# Altium integrated library Atmel Microcontroller AVR UC3.IntLib: 227 symbols (part 10 of 32)
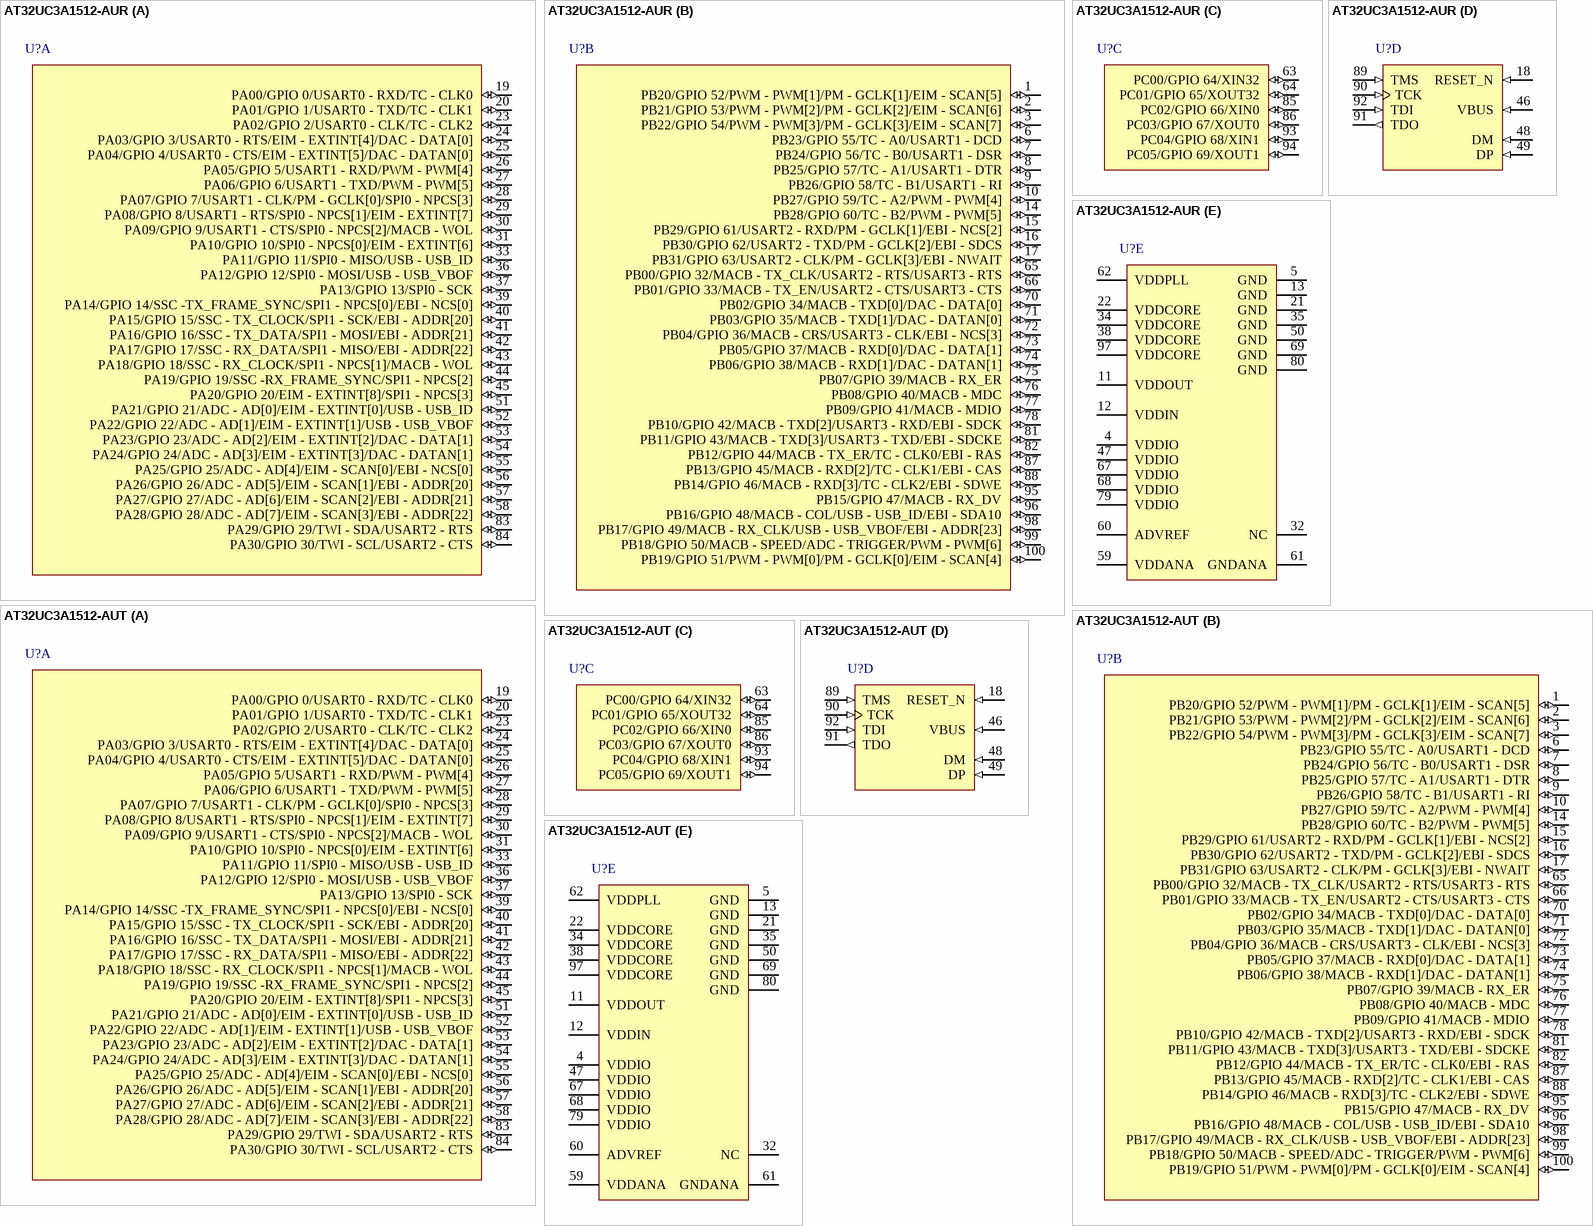
[diagram p246: symbols AT32UC3A1512-AUR to AT32UC3A1512-AUT]

## AT32UC3A1512-AUT
designator U?
32-bit AVR UC3 Microcontroller, 512KB Flash, 64KB SRAM, 69 GPIO pins, 100-Pin TQFP, Industrial Grade, Tray; DatasheetVersion: revK, Jan-2012; PackageVersion: 2011; PackageReference: TQFP100; PackageDescription: 100-Pin Thin Plastic Quad Flat Pack, 14 x 14 x 1 mm Body, 0.5 mm Pitch; Code_JEDEC: MS-026-AED; ComponentLink1Description: Manufacturer URL; ComponentLink1URL: http://www.atmel.com/; ComponentLink2Description: AT32UC3A Datasheet; ComponentLink2URL: http://www.atmel.com/dyn/resources/prod_documents/doc32058.pdf; ComponentLink3Description: AT32UC3A Summary; ComponentLink3URL: http://www.atmel.com/dyn/resources/prod_documents/32058S.pdf
footprint TQFP100_N (Thin QFP, 100-Leads, Body 14x14mm, Pitch 0.5mm, IPC Medium Density)
footprint TQFP100_L (Thin QFP, 100-Leads, Body 14x14mm, Pitch 0.5mm, IPC High Density)
footprint TQFP100_M (Thin QFP, 100-Leads, Body 14x14mm, Pitch 0.5mm, IPC Low Density)
part A pins: 19 PA00/GPIO 0/USART0 - RXD/TC - CLK0 (io), 20 PA01/GPIO 1/USART0 - TXD/TC - CLK1 (io), 23 PA02/GPIO 2/USART0 - CLK/TC - CLK2 (io), 24 PA03/GPIO 3/USART0 - RTS/EIM - EXTINT[4]/DAC - DATA[0] (io), 25 PA04/GPIO 4/USART0 - CTS/EIM - EXTINT[5]/DAC - DATAN[0] (io), 26 PA05/GPIO 5/USART1 - RXD/PWM - PWM[4] (io), 27 PA06/GPIO 6/USART1 - TXD/PWM - PWM[5] (io), 28 PA07/GPIO 7/USART1 - CLK/PM - GCLK[0]/SPI0 - NPCS[3] (io), 29 PA08/GPIO 8/USART1 - RTS/SPI0 - NPCS[1]/EIM - EXTINT[7] (io), 30 PA09/GPIO 9/USART1 - CTS/SPI0 - NPCS[2]/MACB - WOL (io), 31 PA10/GPIO 10/SPI0 - NPCS[0]/EIM - EXTINT[6] (io), 33 PA11/GPIO 11/SPI0 - MISO/USB - USB_ID (io), 36 PA12/GPIO 12/SPI0 - MOSI/USB - USB_VBOF (io), 37 PA13/GPIO 13/SPI0 - SCK (io), 39 PA14/GPIO 14/SSC -TX_FRAME_SYNC/SPI1 - NPCS[0]/EBI - NCS[0] (io), 40 PA15/GPIO 15/SSC - TX_CLOCK/SPI1 - SCK/EBI - ADDR[20] (io), 41 PA16/GPIO 16/SSC - TX_DATA/SPI1 - MOSI/EBI - ADDR[21] (io), 42 PA17/GPIO 17/SSC - RX_DATA/SPI1 - MISO/EBI - ADDR[22] (io), 43 PA18/GPIO 18/SSC - RX_CLOCK/SPI1 - NPCS[1]/MACB - WOL (io), 44 PA19/GPIO 19/SSC -RX_FRAME_SYNC/SPI1 - NPCS[2] (io), 45 PA20/GPIO 20/EIM - EXTINT[8]/SPI1 - NPCS[3] (io), 51 PA21/GPIO 21/ADC - AD[0]/EIM - EXTINT[0]/USB - USB_ID (io), 52 PA22/GPIO 22/ADC - AD[1]/EIM - EXTINT[1]/USB - USB_VBOF (io), 53 PA23/GPIO 23/ADC - AD[2]/EIM - EXTINT[2]/DAC - DATA[1] (io), 54 PA24/GPIO 24/ADC - AD[3]/EIM - EXTINT[3]/DAC - DATAN[1] (io), 55 PA25/GPIO 25/ADC - AD[4]/EIM - SCAN[0]/EBI - NCS[0] (io), 56 PA26/GPIO 26/ADC - AD[5]/EIM - SCAN[1]/EBI - ADDR[20] (io), 57 PA27/GPIO 27/ADC - AD[6]/EIM - SCAN[2]/EBI - ADDR[21] (io), 58 PA28/GPIO 28/ADC - AD[7]/EIM - SCAN[3]/EBI - ADDR[22] (io), 83 PA29/GPIO 29/TWI - SDA/USART2 - RTS (io), 84 PA30/GPIO 30/TWI - SCL/USART2 - CTS (io)
part B pins: 1 PB20/GPIO 52/PWM - PWM[1]/PM - GCLK[1]/EIM - SCAN[5] (io), 2 PB21/GPIO 53/PWM - PWM[2]/PM - GCLK[2]/EIM - SCAN[6] (io), 3 PB22/GPIO 54/PWM - PWM[3]/PM - GCLK[3]/EIM - SCAN[7] (io), 6 PB23/GPIO 55/TC - A0/USART1 - DCD (io), 7 PB24/GPIO 56/TC - B0/USART1 - DSR (io), 8 PB25/GPIO 57/TC - A1/USART1 - DTR (io), 9 PB26/GPIO 58/TC - B1/USART1 - RI (io), 10 PB27/GPIO 59/TC - A2/PWM - PWM[4] (io), 14 PB28/GPIO 60/TC - B2/PWM - PWM[5] (io), 15 PB29/GPIO 61/USART2 - RXD/PM - GCLK[1]/EBI - NCS[2] (io), 16 PB30/GPIO 62/USART2 - TXD/PM - GCLK[2]/EBI - SDCS (io), 17 PB31/GPIO 63/USART2 - CLK/PM - GCLK[3]/EBI - NWAIT (io), 65 PB00/GPIO 32/MACB - TX_CLK/USART2 - RTS/USART3 - RTS (io), 66 PB01/GPIO 33/MACB - TX_EN/USART2 - CTS/USART3 - CTS (io), 70 PB02/GPIO 34/MACB - TXD[0]/DAC - DATA[0] (io), 71 PB03/GPIO 35/MACB - TXD[1]/DAC - DATAN[0] (io), 72 PB04/GPIO 36/MACB - CRS/USART3 - CLK/EBI - NCS[3] (io), 73 PB05/GPIO 37/MACB - RXD[0]/DAC - DATA[1] (io), 74 PB06/GPIO 38/MACB - RXD[1]/DAC - DATAN[1] (io), 75 PB07/GPIO 39/MACB - RX_ER (io), 76 PB08/GPIO 40/MACB - MDC (io), 77 PB09/GPIO 41/MACB - MDIO (io), 78 PB10/GPIO 42/MACB - TXD[2]/USART3 - RXD/EBI - SDCK (io), 81 PB11/GPIO 43/MACB - TXD[3]/USART3 - TXD/EBI - SDCKE (io), 82 PB12/GPIO 44/MACB - TX_ER/TC - CLK0/EBI - RAS (io), 87 PB13/GPIO 45/MACB - RXD[2]/TC - CLK1/EBI - CAS (io), 88 PB14/GPIO 46/MACB - RXD[3]/TC - CLK2/EBI - SDWE (io), 95 PB15/GPIO 47/MACB - RX_DV (io), 96 PB16/GPIO 48/MACB - COL/USB - USB_ID/EBI - SDA10 (io), 98 PB17/GPIO 49/MACB - RX_CLK/USB - USB_VBOF/EBI - ADDR[23] (io), 99 PB18/GPIO 50/MACB - SPEED/ADC - TRIGGER/PWM - PWM[6] (io), 100 PB19/GPIO 51/PWM - PWM[0]/PM - GCLK[0]/EIM - SCAN[4] (io)
part C pins: 63 PC00/GPIO 64/XIN32 (io), 64 PC01/GPIO 65/XOUT32 (io), 85 PC02/GPIO 66/XIN0 (io), 86 PC03/GPIO 67/XOUT0 (io), 93 PC04/GPIO 68/XIN1 (io), 94 PC05/GPIO 69/XOUT1 (io)
part D pins: 18 RESET_N (in), 46 VBUS (in), 48 DM (in), 49 DP (in), 89 TMS (in), 90 TCK (in), 91 TDO (out), 92 TDI (in)
part E pins: 4 VDDIO (power), 5 GND (power), 11 VDDOUT (power), 12 VDDIN (power), 13 GND (power), 21 GND (power), 22 VDDCORE (power), 32 NC, 34 VDDCORE (power), 35 GND (power), 38 VDDCORE (power), 47 VDDIO (power), 50 GND (power), 59 VDDANA (power), 60 ADVREF (power), 61 GNDANA (power), 62 VDDPLL (power), 67 VDDIO (power), 68 VDDIO (power), 69 GND (power), 79 VDDIO (power), 80 GND (power), 97 VDDCORE (power)

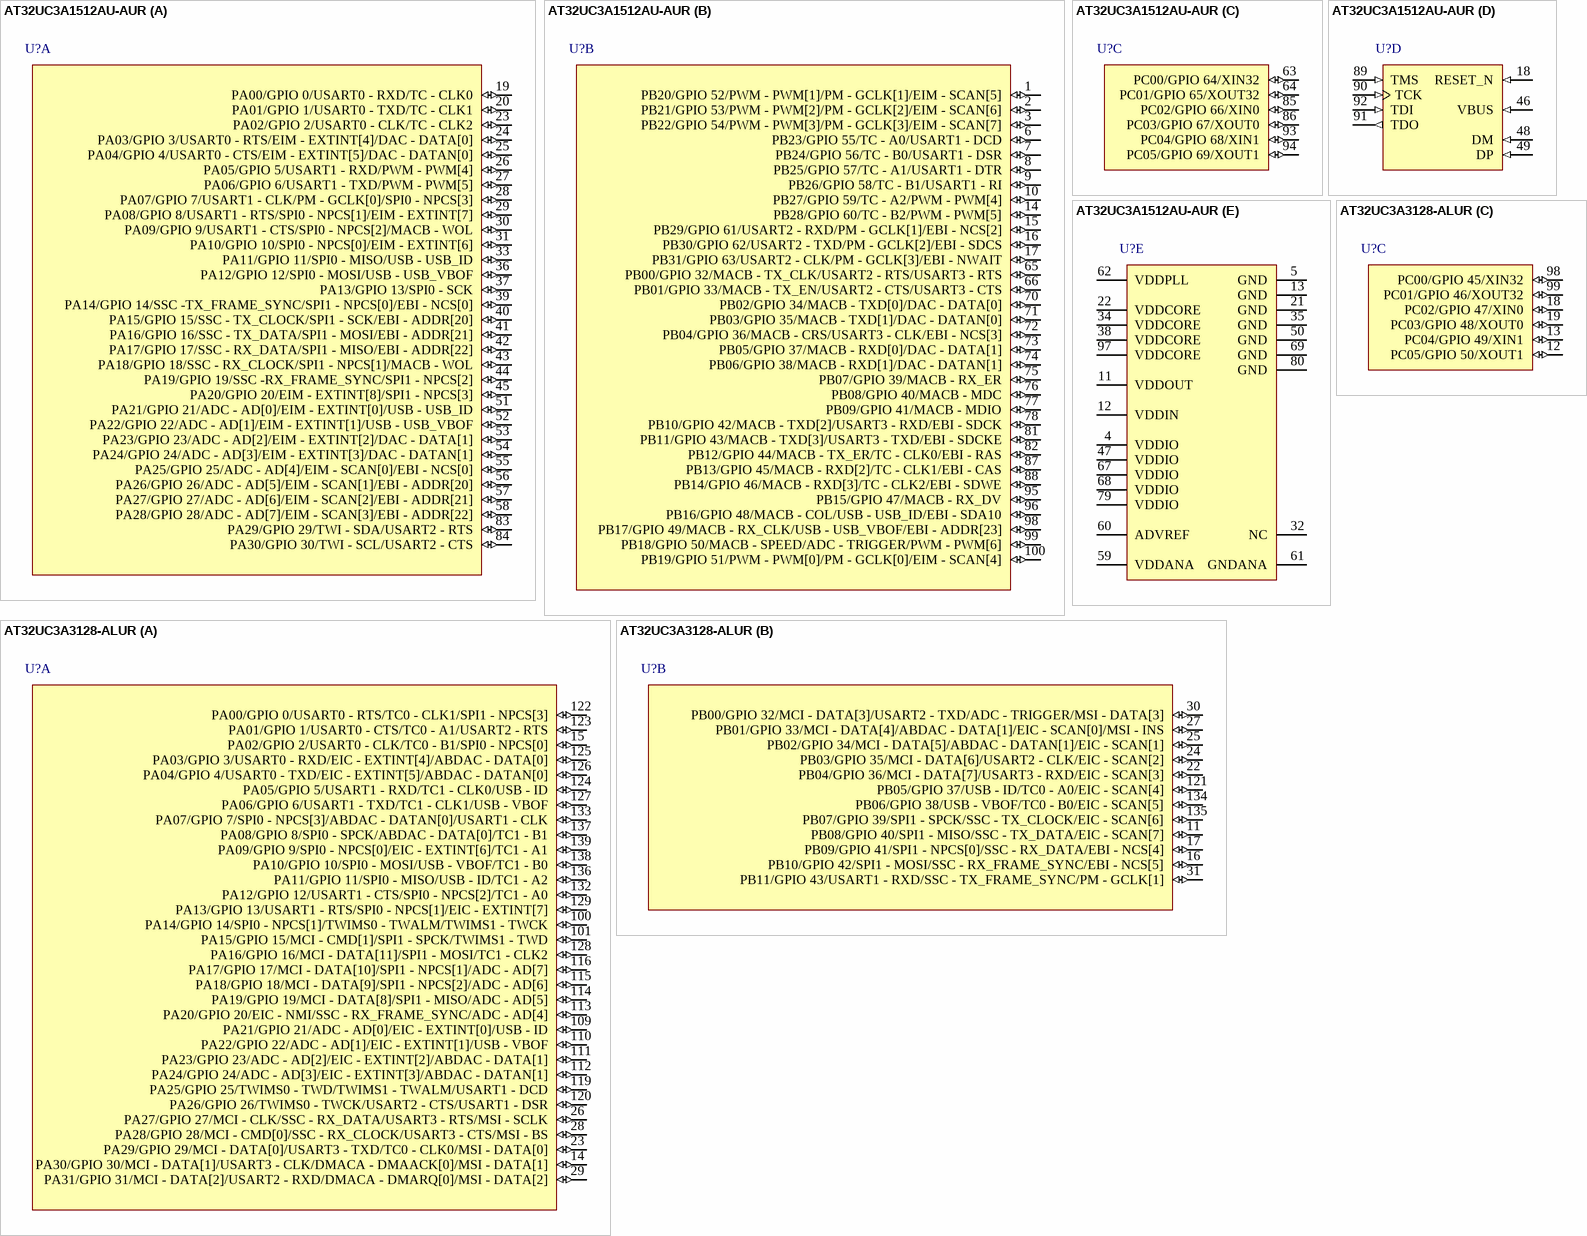
[diagram p31: symbols AT32UC3A1512AU-AUR to AT32UC3A3128-ALUR]